# Altium footprint library Molex Microfit.PCBLIB: 196 footprints (part 13 of 13)
Each footprint in its own frame and in the unit in brackets; x right, y up, seen from the top. Pads: shape width x height; smd on the part's side, far side on the other; paste and mask are expansions set on the pad; w line width, h text height; cw(c..) or ccw(c..) is an arc to the next point about the centre after c.
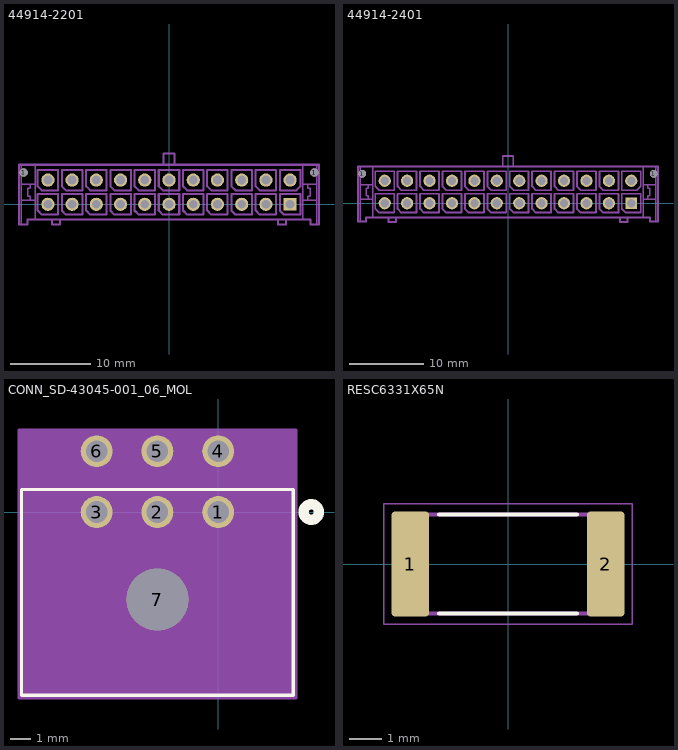
[diagram p12: the footprints below, top view; thin cyan lines are the x and y axes]

## 44914-2201 [mm]
pads (24):
  round 1.02 hole 1.02 unplated: 1(-18,3.94) 1(18,3.94)
  rect 1.583x1.583 / inner rect 1.524x1.524 / far side rect 1.583x1.583 hole 1.09: P$1(15,0)
  round 1.635 / inner round 1.524 / far side round 1.635 hole 1.09: P$2(12,0) P$3(9,0) P$4(6,0) P$5(3,0) P$6(0,0) P$7(-3,0) P$8(-6,0) P$9(-9,0) P$10(-12,0) P$11(-15,0) P$12(15,3) P$13(12,3) P$14(9,3) P$15(6,3) P$16(3,3) P$17(0,3) P$18(-3,3) P$19(-6,3) P$20(-9,3) P$21(-12,3) P$22(-15,3)
Mechanical 22:
  drawing of 166 lines, arcs and shapes, not listed
Mechanical 23:
  lines w0.254: 13.73,1.73 15.762,1.73 16.27,2.238 16.27,4.27 13.73,4.27 13.73,1.73

## 44914-2401 [mm]
pads (26):
  round 1.02 hole 1.02 unplated: 1(-19.5,3.94) 1(19.5,3.94)
  rect 1.583x1.583 / inner rect 1.524x1.524 / far side rect 1.583x1.583 hole 1.09: P$1(16.5,0)
  round 1.635 / inner round 1.524 / far side round 1.635 hole 1.09: P$2(13.5,0) P$3(10.5,0) P$4(7.5,0) P$5(4.5,0) P$6(1.5,0) P$7(-1.5,0) P$8(-4.5,0) P$9(-7.5,0) P$10(-10.5,0) P$11(-13.5,0) P$12(-16.5,0) P$13(16.5,3) P$14(13.5,3) P$15(10.5,3) P$16(7.5,3) P$17(4.5,3) P$18(1.5,3) P$19(-1.5,3) P$20(-4.5,3) P$21(-7.5,3) P$22(-10.5,3) P$23(-13.5,3) P$24(-16.5,3)
Mechanical 22:
  drawing of 176 lines, arcs and shapes, not listed
Mechanical 23:
  lines w0.254: 15.23,1.73 15.23,4.27 17.77,4.27 17.77,2.238 17.262,1.73 15.23,1.73
3D body "449142401.stp": height 10.03, standoff -3.06, extent -20.075,-2.446 20.075,6.354

## CONN_SD-43045-001_06_MOL [mil]
pads (7):
  round 62 / inner round 60 / far side round 62 hole 42 paste-99999 mask+0: 1(0,0) 2(-118.11,0) 3(-236.22,0) 4(0,118.11) 5(-118.11,118.11) 6(-236.22,118.11)
  round 120 / inner round 60 / far side round 120 hole 120 unplated paste-99999 mask+0: 7(-118.11,-170.08)
Top Overlay:
  circle w20: c180.89,0 r15
  lines w6: -382.11,-356.02 145.89,-356.02 145.89,43.98 -382.11,43.98 -382.11,-356.02
Bottom Overlay:
  circle w20: c180.89,0 r15
Mechanical 13:
  circle w20: c0,0 r15
  lines w1: -377.11,-351.02 140.89,-351.02 140.89,38.98 -377.11,38.98 -377.11,-351.02
Mechanical 15:
  region: 150.89,159.11 -387.11,159.11 -387.11,-361.02 150.89,-361.02
  lines w6: -387.11,-361.02 -387.11,159.11 150.89,159.11 150.89,-361.02 -387.11,-361.02
3D body "430450600.stp": height 367.32, standoff -103.15, extent -376.97,-350.08 140.75,131.81

## RESC6331X65N [mm]
height 0.65
pads (2):
  rrect15% 1.17x3.27 smd: 1(-3.055,0) 2(3.055,0)
Top Overlay:
  lines w0.127: -2.15,-1.55 2.15,-1.55 ; -2.15,1.55 2.15,1.55
Mechanical 13:
  lines w0.127: -3.175,-1.55 3.175,-1.55 3.175,1.55 -3.175,1.55 -3.175,-1.55
Mechanical 15:
  lines w0.05: -3.89,-1.885 -3.89,1.885 3.89,1.885 3.89,-1.885 -3.89,-1.885